# EAGLE library part ATTINY4313 (library SMORSE_Chao)
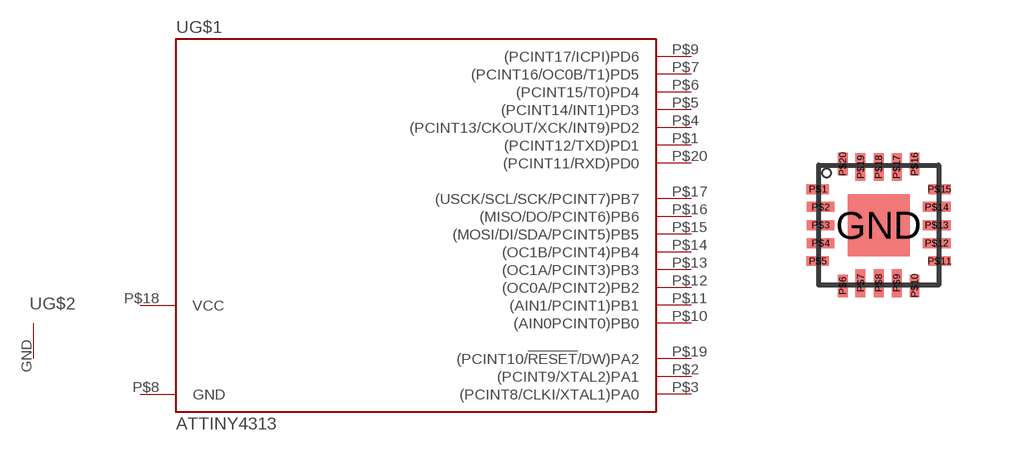
[diagram p7: symbol with the pads of VQFN20; footprint VQFN20]

Designator prefix -; gates G$1=ATTINY4313 G$2=GND

## ATTINY4313  [VQFN20]
GND  G$2:GND  pwr
P$1  G$1:(PCINT12/TXD)PD1
P$2  G$1:(PCINT9/XTAL2)PA1
P$3  G$1:(PCINT8/CLKI/XTAL1)PA0
P$4  G$1:(PCINT13/CKOUT/XCK/INT9)PD2
P$5  G$1:(PCINT14/INT1)PD3
P$6  G$1:(PCINT15/T0)PD4
P$7  G$1:(PCINT16/OC0B/T1)PD5
P$8  G$1:GND  pwr
P$9  G$1:(PCINT17/ICPI)PD6
P$10  G$1:(AIN0PCINT0)PB0
P$11  G$1:(AIN1/PCINT1)PB1
P$12  G$1:(OC0A/PCINT2)PB2
P$13  G$1:(OC1A/PCINT3)PB3
P$14  G$1:(OC1B/PCINT4)PB4
P$15  G$1:(MOSI/DI/SDA/PCINT5)PB5
P$16  G$1:(MISO/DO/PCINT6)PB6
P$17  G$1:(USCK/SCL/SCK/PCINT7)PB7
P$18  G$1:VCC  pwr
P$19  G$1:(PCINT10/!RESET!/DW)PA2
P$20  G$1:(PCINT11/RXD)PD0

## Footprint VQFN20 (pad centres in mm)
smd 1.55 x 1.55: GND 0,0
smd 0.56 x 0.25: P$1 -1.52,0.9; P$5 -1.52,-0.9; P$11 1.52,-0.9; P$15 1.52,0.9
smd 0.7 x 0.25: P$2 -1.45,0.45; P$3 -1.45,0; P$4 -1.45,-0.45; P$12 1.45,-0.45; P$13 1.45,0; P$14 1.45,0.45
smd 0.25 x 0.56: P$6 -0.9,-1.52; P$10 0.9,-1.52; P$16 0.9,1.52; P$20 -0.9,1.52
smd 0.25 x 0.7: P$7 -0.45,-1.45; P$8 0,-1.45; P$9 0.45,-1.45; P$17 0.45,1.45; P$18 0,1.45; P$19 -0.45,1.45